# Altium integrated library ESP8266-12F_Board.IntLib: 20 symbols
Pins are listed as number, name and electrical type; pins without a type are passive.

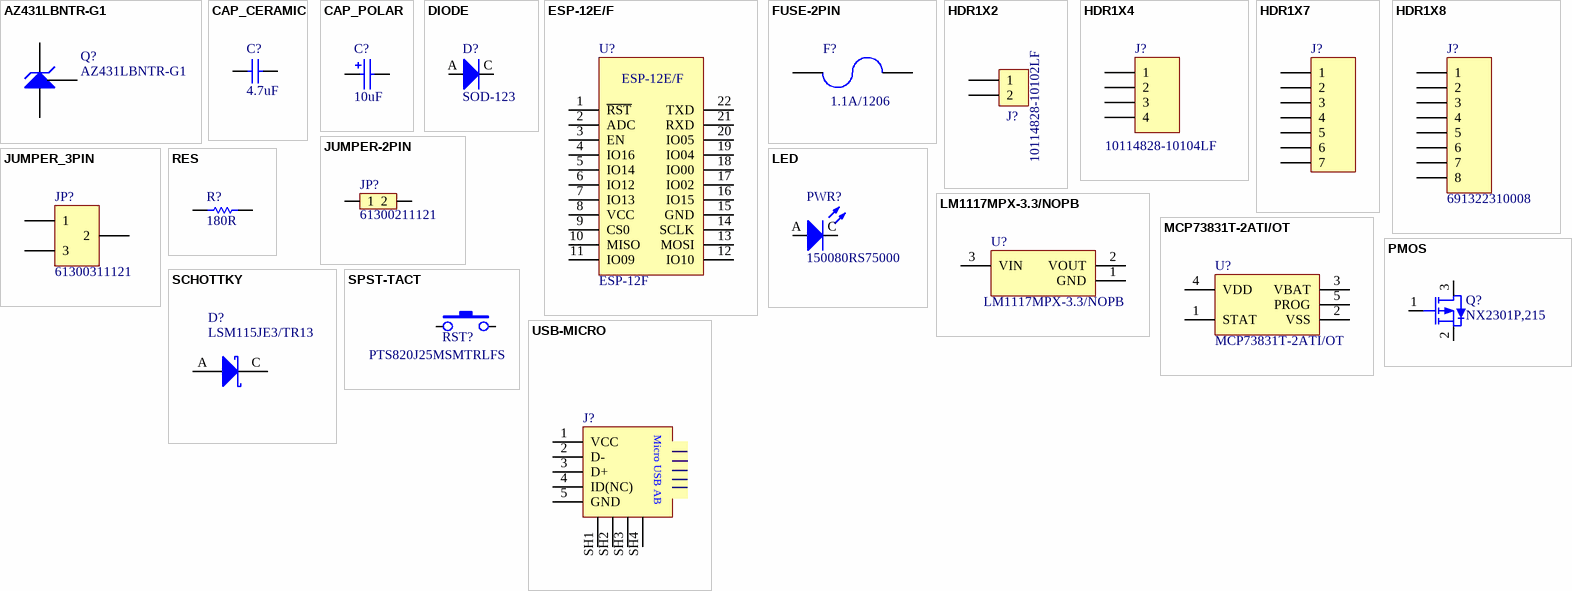
[diagram p0: symbols AZ431LBNTR-G1 to USB-MICRO]

## AZ431LBNTR-G1
designator Q?
footprint SOT23-3 (SOT23, 3-Leads, Body 3.0x2.6mm (max), Pitch 0.95mm, IPC Medium Density)
pins: 1 REF, 2 C, 3 A

## CAP_CERAMIC
designator C?, comment 4.7uF
footprint C0402
footprint C0603
footprint C1206
footprint C0805
footprint C1210 (Res 1210 0.126" L x 0.098" W (3.20mm x 2.50mm))
footprint C0201
footprint C0402
pins: 1, 2

## CAP_POLAR
designator C?, comment 10uF
footprint C0805 Polar
footprint C1206-Polar
footprint C2917-Polar
footprint CAP_ALU_D4_H6.1
footprint CAP_ALU_D8_H5.5
footprint CAP_ALU_D8_H6.2
footprint C1210-POlar (CapTantalum 1210 0.126" L x 0.098" W (3.20mm x 2.50mm))
footprint CAP_ALU_D5_H5.65
footprint C1206+0805-Polar
pins: 1, 2

## DIODE
designator D?, comment SOD-123
footprint POWERDI-123
footprint SOD-123 (SOD123)
pins: A, C

## ESP-12E/F
designator U?, comment ESP-12F
Class 2 embedded Bluetooth 4.0 module; Unit Price@1k: $; MFR Part No: *
footprint ESP_12E/F
pins: 1 ~{RST}, 2 ADC, 3 EN, 4 IO16, 5 IO14, 6 IO12, 7 IO13, 8 VCC, 9 CS0, 10 MISO, 11 IO09, 12 IO10, 13 MOSI, 14 SCLK, 15 GND "Power ground", 16 IO15, 17 IO02, 18 IO00, 19 IO04, 20 IO05, 21 RXD, 22 TXD

## FUSE-2PIN
designator F?, comment 1.1A/1206
footprint FUSE_1206-(1206L300SLTHYR) (TVS DIODE 5.5VWM 14VC 2X1SON)
pins: 1, 2

## HDR1X2
designator J?, comment 10114828-10102LF
footprint HDR1X2_MALE-(61300211121) (2 Positions Header Connector 0.100" (2.54mm) Through Hole Gold)
footprint HDR1X2_MALE_P5.08-(0010081021) (2 Positions Header Connector 0.200" (5.08mm) Through Hole Tin)
footprint TB1X2_MALE_P5-(1935161) (2 Position Wire to Board Terminal Block Horizontal with Board 0.197" (5.00mm) Through Hole)
footprint HDR1X2_SMD_P1.25-(10114828-10102LF)
pins: 1, 2

## HDR1X4
designator J?, comment 10114828-10104LF
footprint HDR1X4_FEMALE-(NPTC041KFXC-RC) (4 Position Header, Top or Bottom Entry Connector 0.100" (2.54mm) Surface Mount Tin)
footprint HDR1X4_MALE-(61300411121) (4 Positions Header Connector 0.100" (2.54mm) Through Hole Gold)
footprint HDR1X4_MALE_P1.27-(0907790001) (4 Positions Header Connector 0.050" (1.27mm) Through Hole Tin)
footprint HDR1X4_MALE_SMD_P1.27-(0908140704) (4 Positions Header Connector 0.050" (1.27mm) Surface Mount Tin)
footprint CON_1X4_P1.25-(0532610471) (CONN HEADER 4POS 1.25MM R/A SMD)
footprint CON_1X4_P2-(5600200420) (CON_4PIN_Molex_560020)
footprint HDR1X4_SMD_P1.25-(10114828-10104LF)
pins: 1, 2, 3, 4

## HDR1X7
designator J?, comment 0901471107  (value not drawn)
footprint HDR1X7_JST_MALE_P2.5-(B7B-XH-A) (7 Positions Header Connector 0.098" (2.50mm) Through Hole Tin)
footprint HDR1X7_MALE-(61300711121) (7 Positions Header Connector 0.100" (2.54mm) Through Hole Gold)
footprint CON_1X7_P1.25-(0532610771) (7 Positions Header Connector 0.049" (1.25mm) Surface Mount, Right Angle Tin)
footprint CON_1X7_P1.25-(0533980771) (7 Positions Header Connector 0.049" (1.25mm) Surface Mount Tin)
footprint HDR1X7_FEMALE-(0901471107) (7 Positions Header Connector 0.100" (2.54mm) Through Hole Gold)
pins: 1, 2, 3, 4, 5, 6, 7

## HDR1X8
designator J?, comment 691322310008
footprint TB-RA-1X8-(691322310008)
pins: 1, 2, 3, 4, 5, 6, 7, 8

## JUMPER-2PIN
designator JP?, comment 61300211121
footprint HDR1X2_MALE-(61300211121) (2 Positions Header Connector 0.100" (2.54mm) Through Hole Gold)
pins: 1, 2

## JUMPER_3PIN
designator JP?, comment 61300311121
footprint HDR1X3_MALE-(61300311121) (3 Positions Header Connector 0.100" (2.54mm) Through Hole Gold)
pins: 1, 2, 3

## LED
designator PWR?, comment 150080RS75000
footprint LED_0805_Red (Standard LEDs - SMD RED WATER CLEAR)
footprint LED_1.7X1.7mm
footprint LED_0603_Blue (Blue 470nm LED Indication - Discrete 2.85V 0603 (1608 Metric))
footprint LED_0603_White (White, Cool 8200K LED Indication - Discrete 2.85V 0603 (1608 Metric))
footprint LED_1204_REVERSE (White LED Indication - Discrete 3.3V 1206 (3216 Metric))
footprint LED_3030
footprint LED_3535_COLOR
footprint LED_3535_white
footprint LED_SMD
footprint LED_TH_5MM (Diode LED D-5mm LS-2.54mm)
pins: A, C

## LM1117MPX-3.3/NOPB
designator U?
MFR Part No.: LM1117MPX-3.3/NOPB
footprint SOT-223-4
pins: 1 GND, 2 VOUT, 3 VIN

## MCP73831T-2ATI/OT
designator U?
MFR Part No.: MCP73831T-2ATI/OT
footprint SOT23-5 (Linear Voltage Regulator IC Positive Fixed 1 Output 1.2V 300mA SOT-23-5)
pins: 1 STAT, 2 VSS, 3 VBAT, 4 VDD, 5 PROG

## PMOS
designator Q?, comment NX2301P,215
footprint SOT-723 (MOSFET P-CH 20V 0.1A VMT3)
footprint SOT23-3 (SOT23, 3-Leads, Body 3.0x2.6mm (max), Pitch 0.95mm, IPC Medium Density)
pins: 1 G, 2 S, 3 D

## RES
designator R?, comment 180R
MFR Part No.: *
footprint R0402
footprint R1206
footprint R0805
footprint R0603
footprint R2512
pins: 1, 2

## SCHOTTKY
designator D?, comment LSM115JE3/TR13
footprint SOD-323
footprint SMC (Diode Schottky 40V 3A Surface Mount SMC)
footprint SOD-123 (SOD123)
footprint SMA-FL-(DO221-AC)
footprint DO-214AC(SMA)
pins: A, C

## SPST-TACT
designator RST?, comment PTS820J25MSMTRLFS
footprint SPST-TACT-SMD-6X6MM (Tactile Switch SPST-NO Top Actuated Surface Mount)
footprint SPST-TACT-SMD-(KMR211GLFS) (SWITCH TACTILE SPST-NO 0.05A 32V)
footprint SPST-TACT-SMD-(PTS810 SJM 250 SMTR LFS) (Tactile Switch SPST-NO Top Actuated Surface Mount)
footprint SPST-TACT-SMD-RA-(TL3330AF260QG) (Tactile Switch SPST-NO Side Actuated Surface Mount, Right Angle)
footprint SPST-TACT-SMD-TH-RA-(EVQ-P46B3M) (Tactile Switch SPST-NO Side Actuated Edge Mount, Right Angle)
footprint SPST-TACT-TH-(B3F-4000) (SWITCH TACTILE SPST-NO 0.05A 24V)
footprint SPST-TACT-TH-(PTS645SL50-2 LFS) (SWITCH TACTILE SPST-NO 0.05A 12V)
footprint SPST-TACT-SMD-(PTS820J25MSMTRLFS)
pins: 1, 2

## USB-MICRO
designator J?  (value not drawn)
footprint USB_MICRO_SMD_(0475890001) (USB - micro AB Receptacle Connector 5 Position Surface Mount, Right Angle-Through Hole)
footprint USB_MICRO_SMD-2
pins: 1 VCC, 2 D-, 3 D+, 4 ID(NC), 5 GND, SH1 6, SH2 7, SH3 8, SH4 9
text: Micro USB AB